# EAGLE library part 74VHCT244AFT (library FaBo-LogicIC)
74VHCT244AFT,NON-INVERTED,3-STATE OUTPUTS
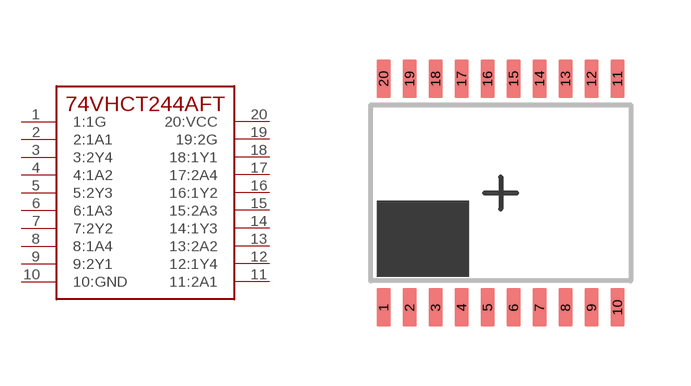
[diagram p4: symbol with the pads of TSSOP20B; footprint TSSOP20B]

Designator prefix -

## 74VHCT244AFT  [TSSOP20B]
1  1:1G
2  2:1A1
3  3:2Y4
4  4:1A2
5  5:2Y3
6  6:1A3
7  7:2Y2
8  8:1A4
9  9:2Y1
10  10:GND
11  11:2A1
12  12:1Y4
13  13:2A2
14  14:1Y3
15  15:2A3
16  16:1Y2
17  17:2A4
18  18:1Y1
19  19:2G
20  20:VCC

## Footprint TSSOP20B (pad centres in mm)
smd 0.35 x 0.97: 1 -2.925,-2.86; 2 -2.275,-2.86; 3 -1.625,-2.86; 4 -0.975,-2.86; 5 -0.325,-2.86; 6 0.325,-2.86; 7 0.975,-2.86; 8 1.625,-2.86; 9 2.275,-2.86; 10 2.925,-2.86; 11 2.925,2.86; 12 2.275,2.86; 13 1.625,2.86; 14 0.975,2.86; 15 0.325,2.86; 16 -0.325,2.86; 17 -0.975,2.86; 18 -1.625,2.86; 19 -2.275,2.86; 20 -2.925,2.86